# Altium schematic symbol library Analog ICs.SchLib: 4 symbols
Pins are listed as number, name and electrical type; pins without a type are passive.

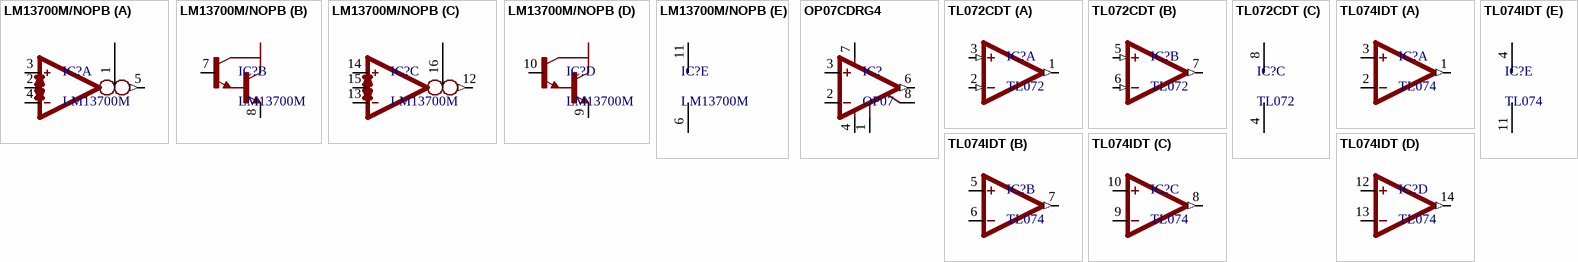
[diagram p0: symbols LM13700M/NOPB to TL074IDT]

## LM13700M/NOPB
designator IC?, comment LM13700M
IC OPAMP TRANSCOND 2MHZ 16SOIC; Manufacturer: TI National Semiconductor; Manufacturer Part Number: LM13700M/NOPB; Min Dual Supply Voltage: 5V; Max Dual Supply Voltage: 18V; Max Supply Voltage: 36V; Output Current: 20mA; Input Offset Voltage (Vos): 4mV; Input Bias Current: 8uA; Number of Circuits: 2; Common Mode Rejection Ratio: 80dB; Min Supply Voltage: 10V; Slew Rate: 50V/µs; Nominal Supply Current: 2.6mA; Output Current per Channel: 650uA; Dual Supply Voltage: 9V; Input Resistance: 26kR; Min Input Voltage: -5V; Supplier 1: Farnell; Supplier Part Number 1: 3118203; RoHS: Yes; Category: Amplifiers - Op Amps, Buffer, Instrumentation; Stock: 890; Pricing: 1=1.01000, 25=0.88700, 50=0.78400, 100=0.68100, 250=0.63800, 500=0.60200, 1000=0.55300, 2500=0.50300 (EUR); Mount: Surface Mount; Case/Package: SOIC; Number of Pins: 16; Contact Plating: Tin; Min Operating Temperature: 0°C; Max Operating Temperature: 70°C; Unity Gain Bandwidth Product: 2MHz; Gain Bandwidth Product: 2MHz; Number of Elements: 2; Package Quantity: 48; Packaging: Rail/Tube; Number of Amplifiers: 2; Number of Channels: 2; Max Input Voltage: 5V; Max Supply Current: 2.6mA; Max Output Current: 650uA; Length: 9.91mm; Height: 1.45mm; Width: 3.91mm; Radiation Hardening: No; Lead Free: Lead Free; REACH SVHC: No SVHC; ComponentLink1URL: https://datasheet.ciiva.com/27055/1992224-27055814.pdf?src-supplier=Jameco; ComponentLink1Description: https://datasheet.ciiva.com/27055/1992224-27055814.pdf?src-supplier=Jameco; ComponentLink2URL: https://datasheet.ciiva.com/15128/getdatasheetpartid-55618-15128167.pdf?src-supplier=Verical; ComponentLink2Description: https://datasheet.ciiva.com/15128/getdatasheetpartid-55618-15128167.pdf?src-supplier=Verical; ComponentLink3URL: https://datasheet.ciiva.com/1488/1839252-1488541.pdf?src-supplier=Element14; ComponentLink3Description: https://datasheet.ciiva.com/1488/1839252-1488541.pdf?src-supplier=Element14; ComponentLink4URL: https://datasheet.ciiva.com/1582/87555-1582990.pdf?src-supplier=Newark; ComponentLink4Description: https://datasheet.ciiva.com/1582/87555-1582990.pdf?src-supplier=Newark; ComponentLink5URL: https://datasheet.ciiva.com/14094/iplm13700-data-e-14094251.pdf?src-supplier=Distrelec; ComponentLink5Description: https://datasheet.ciiva.com/14094/iplm13700-data-e-14094251.pdf?src-supplier=Distrelec; ComponentLink6URL: https://datasheet.ciiva.com/1804/lm13700-1804254.pdf?src-supplier=Digi-Key; ComponentLink6Description: https://datasheet.ciiva.com/1804/lm13700-1804254.pdf?src-supplier=Digi-Key
footprint SO-16 (SOIC, 16-Leads, Body 9.85x3.85mm, Pitch 1.27mm, IPC Medium Density)
part A pins: 1 I_BIAS, 2 I_DIODE, 3 IN_P, 4 IN_N, 5 OUT (out)
part B pins: 7 B, 8 E
part C pins: 12 OUT (out), 13 IN_N, 14 IN_P, 15 I_DIODE, 16 I_BIAS
part D pins: 9 E, 10 B
part E pins: 6 V- (power), 11 V+ (power)

## OP07CDRG4
designator IC?, comment OP07
IC OPAMP GP 600KHZ 8SOIC; Manufacturer: Texas Instruments; Manufacturer Part Number: OP07CDRG4; Max Dual Supply Voltage: 18V; Min Dual Supply Voltage: 3V; Voltage Gain: 112.04dB; Dual Supply Voltage: 9V; Nominal Supply Current: 5mA; Common Mode Rejection Ratio: 100dB; Number of Channels: 1; Slew Rate: 0.3V/µs; Max I/O Voltage: 150uV; Input Bias Current: 7nA; Supplier 1: Farnell; Supplier Part Number 1: 2769315; Stock: 2476; Pricing: 1=0.623, 50=0.544, 100=0.351, 250=0.328, 500=0.304, 1000=0.281, 2500=0.254, 5000=0.233 (EUR); RoHS: Yes; Case/Package: D; Number of Pins: 8; Min Operating Temperature: 0°C; Max Operating Temperature: 70°C; Unity Gain Bandwidth Product: 600kHz; Packaging: Tape and Reel; Package Quantity: 2500; Operating Supply Voltage: 18V; Nominal Gain Bandwidth Product: 600kHz; Input Offset Voltage (Vos): 150uV; Gain Bandwidth Product: 600kHz; Number of Circuits: 1; Number of Elements: 1; Bandwidth: 600kHz; Length: 4.9mm; Height: 1.58mm; Width: 3.91mm; Radiation Hardening: No; Lead Free: Lead Free; ComponentLink1URL: https://datasheet.ciiva.com/1811/op07c-1811542.pdf?src-supplier=Digi-Key; ComponentLink1Description: https://datasheet.ciiva.com/1811/op07c-1811542.pdf?src-supplier=Digi-Key; Price: 0.623
footprint SO-8 (SOIC, 8-Leads, Body 4.90x3.90mm, Pitch 1.27mm, IPC Medium Density)
pins: 1 CMP1, 2 -IN, 3 +IN, 4 V- (power), 6 OUT (out), 7 V+ (power), 8 CMP2

## TL072CDT
designator IC?, comment TL072
IC OPAMP JFET 4MHZ 8SO; Manufacturer: STMicroelectronics; Manufacturer Part Number: TL072CDT; Common Mode Rejection Ratio: 70dB; Min Dual Supply Voltage: 3V; Voltage Gain: 106.02dB; Slew Rate: 16V/µs; Min Supply Voltage: 6V; Max Supply Voltage: 36V; Max Dual Supply Voltage: 18V; Number of Channels: 2; Dual Supply Voltage: 9V; Output Current: 40mA; Nominal Supply Current: 2.5mA; Input Bias Current: 200pA; Input Offset Voltage (Vos): 10mV; Operating Supply Current: 1.4mA; Supplier 1: Farnell; Supplier Part Number 1: 1467663; Stock: 1760; Pricing: 5=0.351, 50=0.313, 100=0.188, 500=0.167, 1000=0.145 (EUR); RoHS: Yes; Mount: Surface Mount; Case/Package: SOIC; Number of Pins: 8; Weight: 0.01lb; Contact Plating: Tin; Min Operating Temperature: 0°C; Max Operating Temperature: 70°C; Gain Bandwidth Product: 4MHz; Unity Gain Bandwidth Product: 4MHz; Packaging: Tape and Reel; Package Quantity: 1; Bandwidth: 4MHz; Operating Supply Voltage: 18V; Number of Circuits: 2; Output Current per Channel: 40mA; Number of Elements: 2; Number of Amplifiers: 2; Length: 4.9mm; Height: 1.25mm; Width: 3.9mm; Radiation Hardening: No; REACH SVHC: No SVHC; Lead Free: Lead Free; ComponentLink1URL: https://datasheet.ciiva.com/15129/getdatasheetpartid-40113-15129688.pdf?src-supplier=Verical; ComponentLink1Description: https://datasheet.ciiva.com/15129/getdatasheetpartid-40113-15129688.pdf?src-supplier=Verical; ComponentLink2URL: https://datasheet.ciiva.com/29306/155616-da-01-en-op-verst-tl072cdt-stm-29306849.pdf?src-supplier=Conrad; ComponentLink2Description: https://datasheet.ciiva.com/29306/155616-da-01-en-op-verst-tl072cdt-stm-29306849.pdf?src-supplier=Conrad; ComponentLink3URL: https://datasheet.ciiva.com/26847/tl072cdt-26847276.pdf?src-supplier=IIIC; ComponentLink3Description: https://datasheet.ciiva.com/26847/tl072cdt-26847276.pdf?src-supplier=IIIC; ComponentLink4URL: https://datasheet.ciiva.com/1795/cd00000490-1795664.pdf?src-supplier=Digi-Key; ComponentLink4Description: https://datasheet.ciiva.com/1795/cd00000490-1795664.pdf?src-supplier=Digi-Key; ComponentLink5URL: https://datasheet.ciiva.com/1795/cd00000490-1795665.pdf?src-supplier=Digi-Key; ComponentLink5Description: https://datasheet.ciiva.com/1795/cd00000490-1795665.pdf?src-supplier=Digi-Key; ComponentLink6URL: https://datasheet.ciiva.com/1795/cd00000490-1795666.pdf?src-supplier=Digi-Key; ComponentLink6Description: https://datasheet.ciiva.com/1795/cd00000490-1795666.pdf?src-supplier=Digi-Key; ComponentLink7URL: https://datasheet.ciiva.com/8008/1674510-8008556.pdf?src-supplier=Element14; ComponentLink7Description: https://datasheet.ciiva.com/8008/1674510-8008556.pdf?src-supplier=Element14; ComponentLink8URL: https://datasheet.ciiva.com/14151/tl072-tl072a-tl072b-st-tds-eng-14151196.pdf?src-supplier=Distrelec; ComponentLink8Description: https://datasheet.ciiva.com/14151/tl072-tl072a-tl072b-st-tds-eng-14151196.pdf?src-supplier=Distrelec; ComponentLink9URL: https://datasheet.ciiva.com/8008/1674510-8008557.pdf?src-supplier=Element14; ComponentLink9Description: https://datasheet.ciiva.com/8008/1674510-8008557.pdf?src-supplier=Element14; Price: 0.351
footprint SO-8 (SOIC, 8-Leads, Body 4.90x3.90mm, Pitch 1.27mm, IPC Medium Density)
part A pins: 1 OUT (out), 2 -IN (in), 3 +IN (in)
part B pins: 5 +IN (in), 6 -IN (in), 7 OUT (out)
part C pins: 4 V- (power), 8 V+ (power)

## TL074IDT
designator IC?, comment TL074
IC OPAMP JFET 3MHZ 14SO; Manufacturer: STMicroelectronics; Manufacturer Part Number: TL074IDT; Voltage Gain: 106.02dB; Min Dual Supply Voltage: 3V; Common Mode Rejection Ratio: 80dB; Dual Supply Voltage: 9V; Slew Rate: 13V/µs; Number of Channels: 4; Max Dual Supply Voltage: 18V; Nominal Supply Current: 2.5mA; Input Bias Current: 200pA; Input Offset Voltage (Vos): 3mV; Operating Supply Current: 1.4mA; Min Supply Voltage: 6V; Output Current: 40mA; Max Input Voltage: 15V; Min Input Voltage: -12V; Power Dissipation: 680mW; Supplier 1: Farnell; Supplier Part Number 1: 1750154; RoHS: Yes; Category: Amplifiers - Op Amps, Buffer, Instrumentation; Stock: 18824; Pricing: 5=0.48500, 50=0.42800, 100=0.26100, 500=0.23200, 1000=0.20200 (EUR); Mount: Surface Mount; Case/Package: SOIC; Number of Pins: 14; Min Operating Temperature: -40°C; Max Operating Temperature: 105°C; Gain Bandwidth Product: 3MHz; Bandwidth: 3MHz; Packaging: Tape and Reel; Unity Gain Bandwidth Product: 3MHz; Package Quantity: 2500; Number of Circuits: 4; Number of Amplifiers: 4; Number of Elements: 4; Max Supply Voltage: 18V; Output Current per Channel: 40mA; Length: 8.75mm; Height: 1.65mm; Width: 4mm; Radiation Hardening: No; REACH SVHC: No SVHC; Lead Free: Lead Free; ComponentLink1URL: https://datasheet.ciiva.com/26846/tl074idt-26846545.pdf?src-supplier=IIIC; ComponentLink1Description: https://datasheet.ciiva.com/26846/tl074idt-26846545.pdf?src-supplier=IIIC; ComponentLink2URL: https://datasheet.ciiva.com/1795/cd00000489-1795785.pdf?src-supplier=Digi-Key; ComponentLink2Description: https://datasheet.ciiva.com/1795/cd00000489-1795785.pdf?src-supplier=Digi-Key; ComponentLink3URL: https://datasheet.ciiva.com/1795/cd00000489-1795786.pdf?src-supplier=Digi-Key; ComponentLink3Description: https://datasheet.ciiva.com/1795/cd00000489-1795786.pdf?src-supplier=Digi-Key; ComponentLink4URL: https://datasheet.ciiva.com/1795/cd00000489-1795787.pdf?src-supplier=Digi-Key; ComponentLink4Description: https://datasheet.ciiva.com/1795/cd00000489-1795787.pdf?src-supplier=Digi-Key; Price: 0.349
footprint SO-14 (SOIC, 14-Leads, Body 8.65x3.90mm, Pitch 1.27mm, IPC Medium Density)
part A pins: 1 OUT (out), 2 -IN, 3 +IN
part B pins: 5 +IN, 6 -IN, 7 OUT (out)
part C pins: 8 OUT (out), 9 -IN, 10 +IN
part D pins: 12 +IN, 13 -IN, 14 OUT (out)
part E pins: 4 V+ (power), 11 V- (power)